# Altium footprint library SRR1208-101YL.PcbLib: 1 footprints
Each footprint in its own frame and in the unit in brackets; x right, y up, seen from the top. Pads: shape width x height; smd on the part's side, far side on the other; paste and mask are expansions set on the pad; w line width, h text height; cw(c..) or ccw(c..) is an arc to the next point about the centre after c.
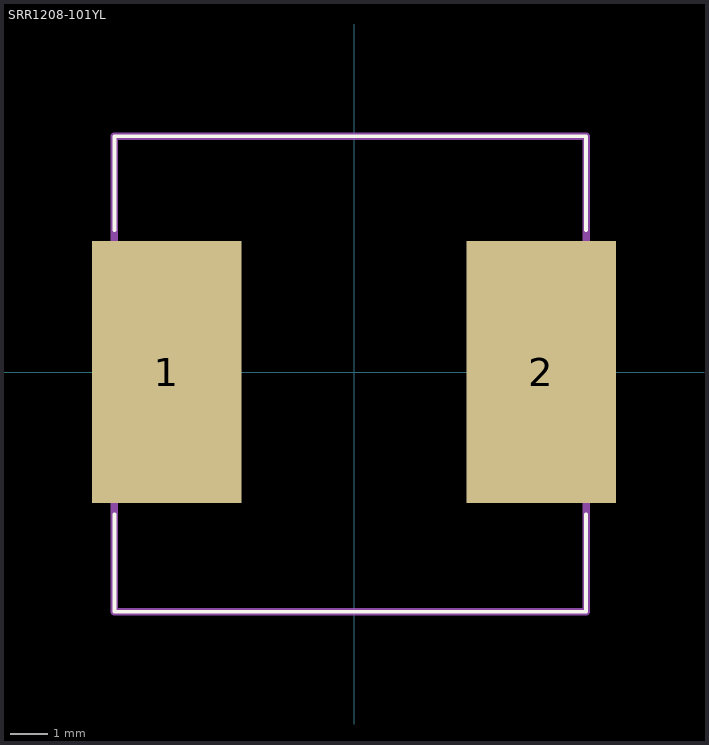
[diagram p0: the footprint, top view; thin cyan lines are the x and y axes]

## SRR1208-101YL [mm]
pads (2):
  rect 4x7 smd: 1(-5,0) 2(5,0)
Top Overlay:
  lines w0.1: -6.4,-3.8 -6.4,-6.4 6.2,-6.4 6.2,-3.8 ; -6.4,3.8 -6.4,6.3 6.2,6.3 6.2,3.8
Mechanical 13:
  lines w0.2: -6.4,-6.4 6.2,-6.4 6.2,6.3 -6.4,6.3 -6.4,-6.4
3D body "SRR1208-101YL.stp": height 8.5, standoff 0, extent -6.35,-6.4 6.35,6.3